# Altium integrated library EG1218.IntLib: 1 symbol
Pins are listed as number, name and electrical type; pins without a type are passive.

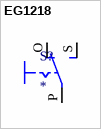
[diagram p0: symbol EG1218]

## EG1218
designator S?
<b>SLIDING SWITCH</b><p> 0.1" spacing through hole, vertical SPDT slide switch <p>http://www.ladyada.net/library/pcb/eaglelibrary.html</p>; MP: EG1218; Package: None; Availability: Unavailable; Value: *; Price: None
footprint EG1218
pins: O, P, S